# EAGLE library part BGT24LTR11N16 (library infineon)
Silicon Germanium 24GHz Radar Transceiver MMIC
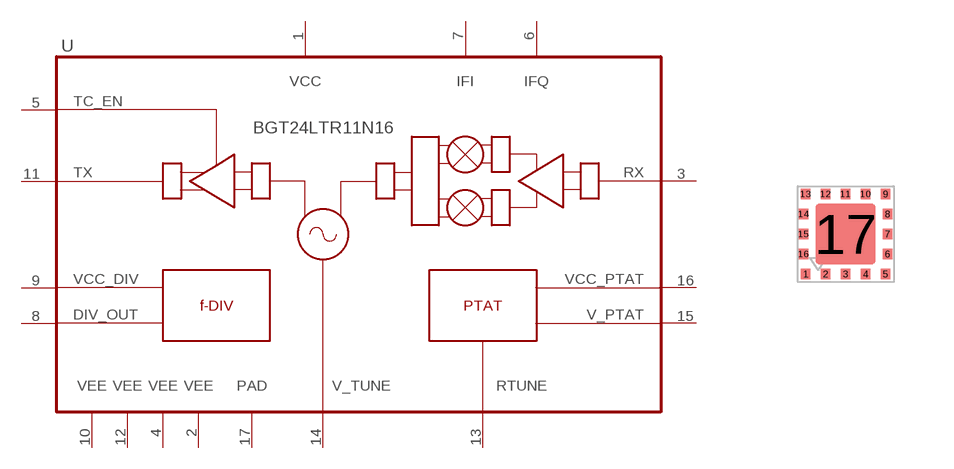
[diagram p1: symbol with the pads of TSNP-16-9; footprint TSNP-16-9]

Designator prefix U

## BGT24LTR11N16  [TSNP-16-9]
1  VCC  pwr
2  VEE  pwr
3  RX  in
4  VEE  pwr
5  TX_EN  in
6  IFQ  out
7  IFI  out
8  DIV_OUT
9  VCC_DIV  in
10  VEE  pwr
11  TX  pas
12  VEE  pwr
13  R_TUNE  pas
14  V_TUNE  in
15  V_PTAT  out
16  VCC_PTAT  in
17  PAD  pas

## Footprint TSNP-16-9 (pad centres in mm)
TSNP-16-9
smd 0.25 x 0.25: 1 -1,-1; 2 -0.5,-1; 3 0,-1; 4 0.5,-1; 5 1,-1; 6 1.05,-0.5; 7 1.05,0; 8 1.05,0.5; 9 1,1; 10 0.5,1; 11 0,1; 12 -0.5,1; 13 -1,1; 14 -1.05,0.5; 15 -1.05,0; 16 -1.05,-0.5
smd 1.5 x 1.5: 17 0,0